# Altium integrated library Infineon Discrete BJT.IntLib: 2 symbols
Pins are listed as number, name and electrical type; pins without a type are passive.

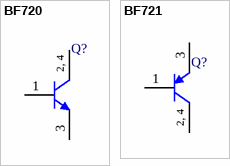
[diagram p0: symbols BF720 to BF721]

## BF720
designator Q?
NPN Silicon High-Voltage Transistor; Published: 8-Jun-2000; DatasheetDocument: May-1991; PackageDocument: Sep-2000; PackageReference: SOT-223; Publisher: Altium Limited; ComponentLink1Description: Manufacturer Link; ComponentLink1URL: http://www.infineon.com/; ComponentLink2Description: Datasheet; ComponentLink2URL: http://www.infineon.convergy.de/upload/documents/techdoc/GF_32/bf720.pdf
footprint SOT-223 (SOT-223/SC-73; 4 Leads; Body 6.7 x 7.3 mm, inc. leads (LxW max))
simulation model BF720 (NPN)
pins: 1 B, 2 C, 3 E, 4 C
text: 2, 4

## BF721
designator Q?
PNP Silicon High-Voltage Transistor; Published: 8-Jun-2000; DatasheetDocument: Jul-1994; PackageDocument: Sep-2000; PackageReference: SOT-223; Publisher: Altium Limited; ComponentLink1Description: Manufacturer Link; ComponentLink1URL: http://www.infineon.com/; ComponentLink2Description: Datasheet; ComponentLink2URL: http://www.infineon.convergy.de/upload/documents/techdoc/GF_32/bf721.pdf
footprint SOT-223 (SOT-223/SC-73; 4 Leads; Body 6.7 x 7.3 mm, inc. leads (LxW max))
simulation model BF721 (PNP)
pins: 1 B, 2 C, 3 E, 4 C
text: 2, 4